# Altium schematic symbol library ppd.SchLib: 4 symbols
Pins are listed as number, name and electrical type; pins without a type are passive.

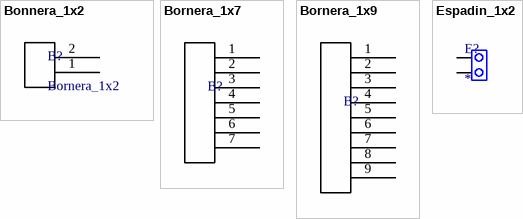
[diagram p0: symbols Bonnera_1x2 to Espadin_1x2]

## Bonnera_1x2
designator B?, comment Bornera_1x2
footprint Bornera_1x2
pins: 1, 2

## Bornera_1x7
designator B?  (value not drawn)
footprint BORNERA_1x7
pins: 1, 2, 3, 4, 5, 6, 7

## Bornera_1x9
designator B?  (value not drawn)
footprint bornera_1x9
pins: 1, 2, 3, 4, 5, 6, 7, 8, 9

## Espadin_1x2
designator E?
footprint Espadin_1x2
pins: 1, 2